# EAGLE library part ACPL-7900 (library Rebel)
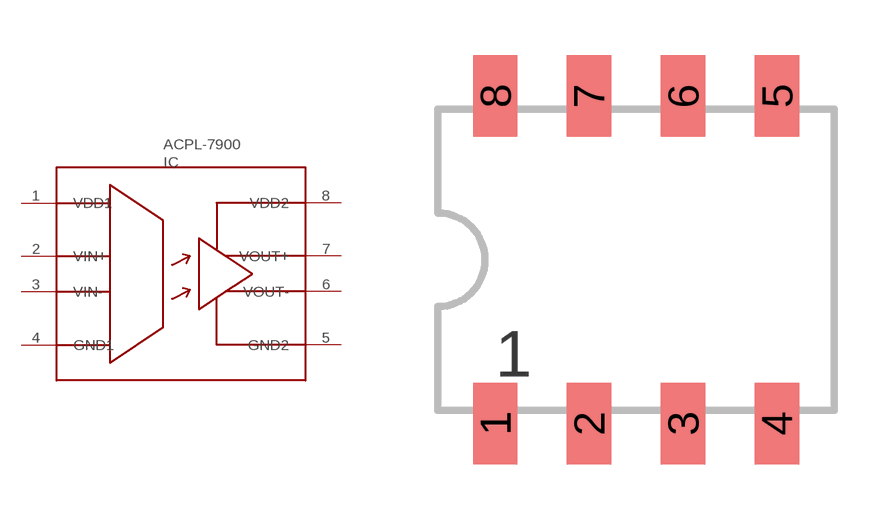
[diagram p39: symbol with the pads of DIP8; footprint DIP8]

Designator prefix IC

## ACPL-7900  [DIP8]
1  VDD1
2  VIN+
3  VIN-
4  GND1
5  GND2
6  VOUT-
7  VOUT+
8  VDD2

## Footprint DIP8 (pad centres in mm)
SMD DIL08 dual in line package'
smd 1.2 x 2.2: 1 -3.81,-4.435; 2 -1.27,-4.435; 3 1.27,-4.435; 4 3.81,-4.435; 5 3.81,4.435; 6 1.27,4.435; 7 -1.27,4.435; 8 -3.81,4.435